# EAGLE library part SP3203ECY-L/TR (library circuit_tree)
IC
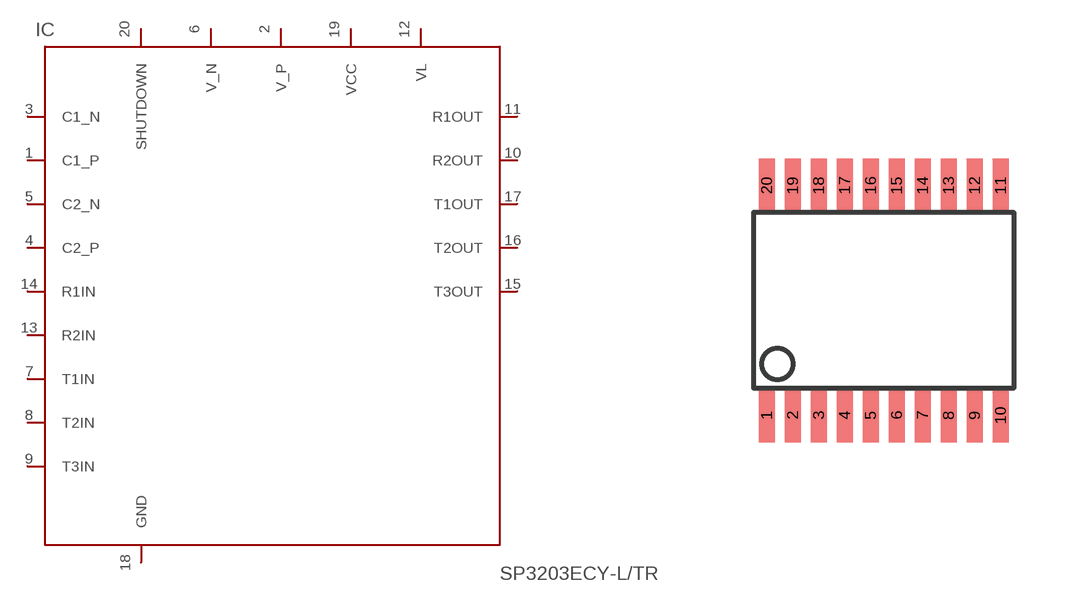
[diagram p8: symbol with the pads of TSSOP20-I; footprint TSSOP20-I]

Designator prefix IC

## SP3203ECY-L/TR  [TSSOP20-I]
1  C1_P  pas
2  V_P  pas
3  C1_N  pas
4  C2_P  pas
5  C2_N  pas
6  V_N  pas
7  T1IN  pas
8  T2IN  pas
9  T3IN  pas
10  R2OUT  pas
11  R1OUT  pas
12  VL  pas
13  R2IN  pas
14  R1IN  pas
15  T3OUT  pas
16  T2OUT  pas
17  T1OUT  pas
18  GND  pas
19  VCC  pas
20  SHUTDOWN  pas

## Footprint TSSOP20-I (pad centres in mm)
TSSOP20-I 20-pin thin shrink small outline package
smd 0.4 x 1.35: 1 -2.925,-2.875; 2 -2.275,-2.875; 3 -1.625,-2.875; 4 -0.975,-2.875; 5 -0.325,-2.875; 6 0.325,-2.875; 7 0.975,-2.875; 8 1.625,-2.875; 9 2.275,-2.875; 10 2.925,-2.875; 11 2.925,2.875; 12 2.275,2.875; 13 1.625,2.875; 14 0.975,2.875; 15 0.325,2.875; 16 -0.325,2.875; 17 -0.975,2.875; 18 -1.625,2.875; 19 -2.275,2.875; 20 -2.925,2.875